# Altium schematic symbol library BMI088.SchLib: 1 symbol
Pins are listed as number, name and electrical type; pins without a type are passive.

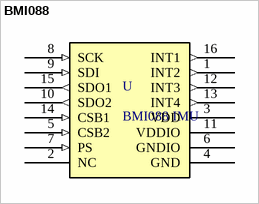
[diagram p0: symbol BMI088]

## BMI088
designator U, comment BMI088 IMU
pins: 1 INT2 (out), 2 NC, 3 VDD (power), 4 GND (power), 5 CSB2 (in), 6 GNDIO (power), 7 PS (in), 8 SCK (in), 9 SDI (in), 10 SDO2 (out), 11 VDDIO (power), 12 INT3 (out), 13 INT4 (out), 14 CSB1 (in), 15 SDO1 (out), 16 INT1 (out)